# EAGLE library part XPORT-PRO (library lantronix-wallplug)
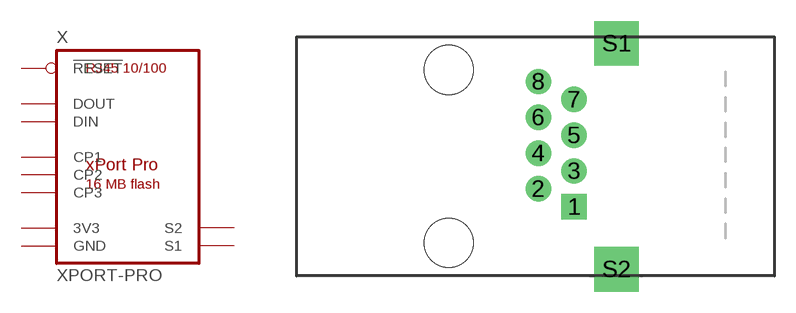
[diagram p0: symbol with the pads of XPORTPRO; footprint XPORTPRO]

Designator prefix X

## XPORT-PRO  [XPORTPRO]
1  GND  pwr
2  3V3  pwr
3  !RESET  in
4  DOUT  out
5  DIN  in
6  CP1
7  CP2
8  CP3
S1  S1  pas
S2  S2  pas

## Footprint XPORTPRO (pad centres in mm)
Lantronix xPort Pro / xPort Pro Lx6 embedded device server, RJ45 at +X (front)
drill 0.9 pad 1.8 square: 1 1.27,-3.58
drill 0.9 pad 1.8: 2 -1.27,-2.31; 3 1.27,-1.04; 4 -1.27,0.23; 5 1.27,1.5; 6 -1.27,2.77; 7 1.27,4.04; 8 -1.27,5.31
drill 1.676 pad 3.175 square: S1 4.28,8.025; S2 4.28,-8.025
hole 3.5 at -7.62,6.15
hole 3.5 at -7.62,-6.15